# Altium footprint library TRANSISTOR.PcbLib: 6 footprints
Each footprint in its own frame and in the unit in brackets; x right, y up, seen from the top. Pads: shape width x height; smd on the part's side, far side on the other; paste and mask are expansions set on the pad; w line width, h text height; cw(c..) or ccw(c..) is an arc to the next point about the centre after c.
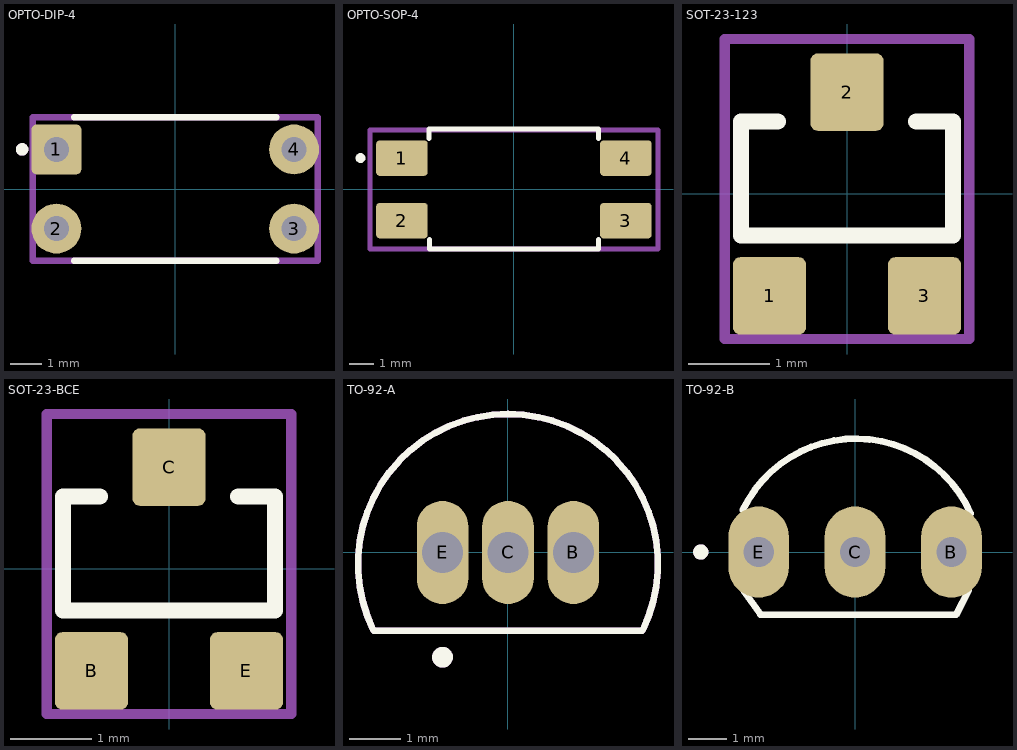
[diagram p0: the footprints below, top view; thin cyan lines are the x and y axes]

## OPTO-DIP-4 [mm]
pads (4):
  rrect20% 1.6x1.6 hole 0.8: 1(-3.81,1.27)
  round 1.6 hole 0.8: 2(-3.81,-1.27) 3(3.81,-1.27) 4(3.81,1.27)
Top Overlay:
  circle w0.2: c-4.91,1.27 r0.1
  lines w0.2: -3.25,-2.3 3.25,-2.3 ; -3.25,2.3 3.25,2.3
Mechanical 13:
  circle w0.2: c-4.91,1.27 r0.1
  lines w0.2: -4.572,-2.3 4.572,-2.3 4.572,2.3 -4.572,2.3 -4.572,-2.3
3D body "Optokoppler PC817.x_t": height 4.26, standoff -2.75, extent -3.94,-2.29 3.94,2.29

## OPTO-SOP-4 [mm]
height 8.4
pads (4):
  rrect20% 2.09x1.44 smd mask+0.075: 1(-4.54,1.27) 2(-4.54,-1.27) 3(4.54,-1.27) 4(4.54,1.27)
Top Overlay:
  circle w0.2: c-6.223,1.27 r0.1
  lines w0.2: -3.436,2.062 -3.436,2.443 3.422,2.443 3.422,2.062 ; -3.429,-2.032 -3.429,-2.413 3.429,-2.413 3.429,-2.032
Mechanical 13:
  lines w0.2: -5.842,-2.413 5.842,-2.413 5.842,2.413 -5.842,2.413 -5.842,-2.413
3D body "SMD DIP-4.stp": height 4.32, standoff 0.01, extent -5.075,-2.29 5.075,2.29

## SOT-23-123 [mm]
height 1.1
pads (3):
  rrect20% 0.9x0.95 smd: 1(-0.95,-1.25) 2(0,1.25) 3(0.95,-1.25)
Top Overlay:
  lines w0.2: -0.85,0.889 -1.3,0.889 -1.3,-0.508 1.3,-0.508 1.3,0.889 0.85,0.889
Mechanical 13:
  lines w0.127: -1.5,-1.778 1.5,-1.778 1.5,1.9 -1.5,1.9 -1.5,-1.778
3D body "SOT23-3.stp": height 1.2, standoff 0.02, extent -1.5,-1.418 1.5,1.418

## SOT-23-BCE [mm]
height 1.1
pads (3):
  rrect20% 0.9x0.95 smd: B(-0.95,-1.25) C(0,1.25) E(0.95,-1.25)
Top Overlay:
  lines w0.2: -0.85,0.889 -1.3,0.889 -1.3,-0.508 1.3,-0.508 1.3,0.889 0.85,0.889
Mechanical 13:
  lines w0.127: -1.5,-1.778 -1.5,1.9 1.5,1.9 1.5,-1.778 -1.5,-1.778
3D body "SOT23-3.stp": height 1.2, standoff 0.02, extent -1.5,-1.418 1.5,1.418

## TO-92-A [mm]
pads (3):
  oval 1x2 hole 0.8: B(1.27,0) C(0,0) E(-1.27,0)
Top Overlay:
  circle w0.2: c-1.27,-2.032 r0.1
  lines w0.127: -2.615,-1.499 cw(c0,-0.224) 2.615,-1.499 ; -2.605,-1.52 2.605,-1.52
Mechanical 13:
  circle w0.2: c-1.27,-2.032 r0.1
  lines w0.127: -2.615,-1.499 cw(c0,-0.224) 2.615,-1.499 ; -2.605,-1.52 2.605,-1.52
3D body "TO-92.stp": height 6.18, standoff -3, extent -2.29,-1.21 2.282,2.35

## TO-92-B [mm] "TO-92"
height 5.08
pads (3):
  oval 1.6x2.4 hole 0.8: B(2.54,0) C(0,0) E(-2.54,0)
Top Overlay:
  circle w0.2: c-4.064,0 r0.1
  lines w0.178: -2.96,1.098 cw(c0.025,-0.316) 3.046,1.015 ; -2.93,-1.022 -2.489,-1.651 2.667,-1.651 2.997,-0.991
Mechanical 13:
  circle w0.2: c-4.064,0 r0.1
3D body "SW3dPS-TO92.STEP": height 7.22, standoff -4.07, extent -2.765,-1.665 2.765,2.435